# EAGLE library part BARRIER-6 (library zz-upenn)
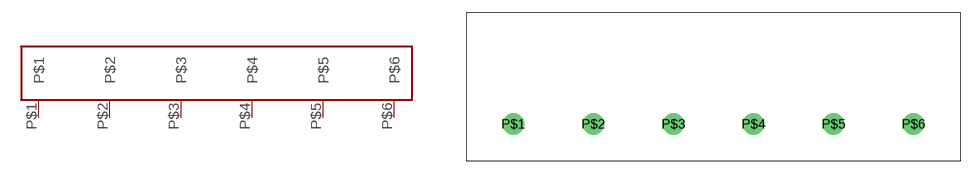
[diagram p29: symbol with the pads of BARRIER-6; footprint BARRIER-6]

Designator prefix -

## BARRIER-6  [BARRIER-6]
P$1  P$1
P$2  P$2
P$3  P$3
P$4  P$4
P$5  P$5
P$6  P$6

## Footprint BARRIER-6 (pad centres in mm)
drill 1.7: P$1 0,0; P$2 9.5,0; P$3 19,0; P$4 28.5,0; P$5 38,0; P$6 47.5,0